# Altium footprint library 2020-11-22_15-05-33.PcbLib: 3 footprints
Each footprint in its own frame and in the unit in brackets; x right, y up, seen from the top. Pads: shape width x height; smd on the part's side, far side on the other; paste and mask are expansions set on the pad; w line width, h text height; cw(c..) or ccw(c..) is an arc to the next point about the centre after c.
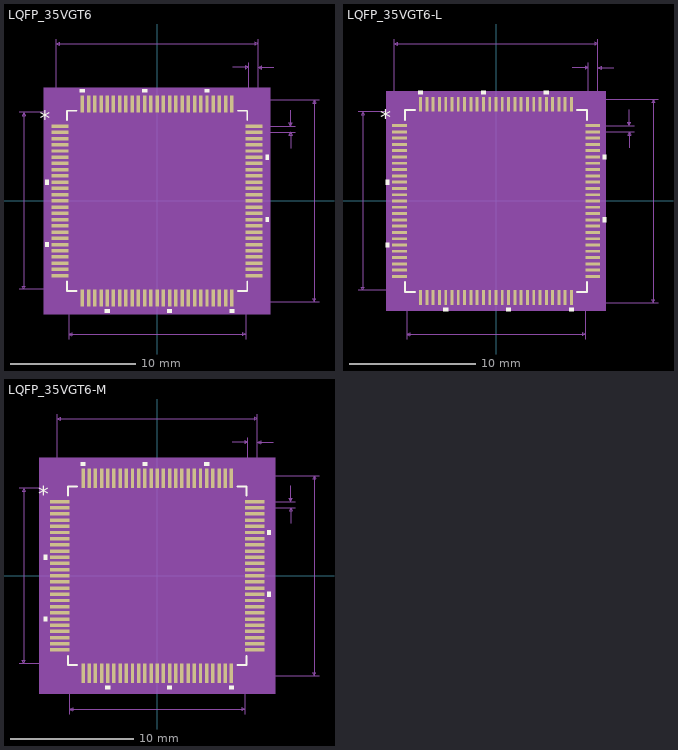
[diagram p0: the footprints below, top view; thin cyan lines are the x and y axes]

## LQFP_35VGT6 [mil]
pads (100):
  rect 53.5x11 smd paste+0 mask+0: 1(-306.25,236.28) 2(-306.25,216.59) 3(-306.25,196.9) 4(-306.25,177.21) 5(-306.25,157.52) 6(-306.25,137.83) 7(-306.25,118.14) 8(-306.25,98.45) 9(-306.25,78.76) 10(-306.25,59.07) 11(-306.25,39.38) 12(-306.25,19.69) 13(-306.25,0) 14(-306.25,-19.69) 15(-306.25,-39.38) 16(-306.25,-59.07) 17(-306.25,-78.76) 18(-306.25,-98.45) 19(-306.25,-118.14) 20(-306.25,-137.83) 21(-306.25,-157.52) 22(-306.25,-177.21) 23(-306.25,-196.9) 24(-306.25,-216.59) 25(-306.25,-236.28) 51(306.25,-236.28) 52(306.25,-216.59) 53(306.25,-196.9) 54(306.25,-177.21) 55(306.25,-157.52) 56(306.25,-137.83) 57(306.25,-118.14) 58(306.25,-98.45) 59(306.25,-78.76) 60(306.25,-59.07) 61(306.25,-39.38) 62(306.25,-19.69) 63(306.25,0) 64(306.25,19.69) 65(306.25,39.38) 66(306.25,59.07) 67(306.25,78.76) 68(306.25,98.45) 69(306.25,118.14) 70(306.25,137.83) 71(306.25,157.52) 72(306.25,177.21) 73(306.25,196.9) 74(306.25,216.59) 75(306.25,236.28)
  rect 11x53.5 smd paste+0 mask+0: 26(-236.28,-306.25) 27(-216.59,-306.25) 28(-196.9,-306.25) 29(-177.21,-306.25) 30(-157.52,-306.25) 31(-137.83,-306.25) 32(-118.14,-306.25) 33(-98.45,-306.25) 34(-78.76,-306.25) 35(-59.07,-306.25) 36(-39.38,-306.25) 37(-19.69,-306.25) 38(0,-306.25) 39(19.69,-306.25) 40(39.38,-306.25) 41(59.07,-306.25) 42(78.76,-306.25) 43(98.45,-306.25) 44(118.14,-306.25) 45(137.83,-306.25) 46(157.52,-306.25) 47(177.21,-306.25) 48(196.9,-306.25) 49(216.59,-306.25) 50(236.28,-306.25) 76(236.28,306.25) 77(216.59,306.25) 78(196.9,306.25) 79(177.21,306.25) 80(157.52,306.25) 81(137.83,306.25) 82(118.14,306.25) 83(98.45,306.25) 84(78.76,306.25) 85(59.07,306.25) 86(39.38,306.25) 87(19.69,306.25) 88(0,306.25) 89(-19.69,306.25) 90(-39.38,306.25) 91(-59.07,306.25) 92(-78.76,306.25) 93(-98.45,306.25) 94(-118.14,306.25) 95(-137.83,306.25) 96(-157.52,306.25) 97(-177.21,306.25) 98(-196.9,306.25) 99(-216.59,306.25) 100(-236.28,306.25)
Top Overlay:
  region: -343,66.57 -353,66.57 -353,51.57 -343,51.57
  region: -343,-130.33 -353,-130.33 -353,-145.33 -343,-145.33
  region: -150.02,-343 -165.02,-343 -165.02,-353 -150.02,-353
  region: 46.88,-343 31.88,-343 31.88,-353 46.88,-353
  region: 243.78,-343 228.78,-343 228.78,-353 243.78,-353
  region: 343,-51.57 353,-51.57 353,-66.57 343,-66.57
  region: 343,145.33 353,145.33 353,130.33 343,130.33
  region: 165.02,343 150.02,343 150.02,353 165.02,353
  region: -31.88,343 -46.88,343 -46.88,353 -31.88,353
  region: -228.78,343 -243.78,343 -243.78,353 -228.78,353
  lines w6: -284.5,-254.88 -284.5,-284.5 -254.88,-284.5 ; -284.5,254.88 -284.5,284.5 -254.88,284.5 ; 254.88,-284.5 284.5,-284.5 284.5,-254.88 ; 254.88,284.5 284.5,284.5 284.5,254.88
  text "*" at -370.5,236.12 h50
Mechanical 5:
  region: 358,-358 -358,-358 -358,358 358,358
Mechanical 7:
  lines w1: -436.25,-279.5 -236.28,-279.5 ; -436.25,279.5 -236.28,279.5 ; -319,236.28 -319,511.25 ; -279.5,-436.25 -279.5,-236.28 ; 236.28,-319 511.25,-319 ; 236.28,319 511.25,319 ; 239,421.25 289,421.25 ; 279.5,-436.25 279.5,-236.28 ; 289,236.28 289,436.25 ; 306.25,216.59 436.25,216.59 ; 306.25,236.28 436.25,236.28 ; 319,436.25 319,236.28 319,511.25 ; 369,421.25 319,421.25 ; 421.25,166.59 421.25,216.59 ; 421.25,286.28 421.25,236.28 ; -421.25,-279.5 -421.25,279.5 ; -421.25,-279.5 -426.25,-269.5 -416.25,-269.5 -421.25,-279.5 ; -421.25,279.5 -426.25,269.5 -416.25,269.5 -421.25,279.5 ; -319,496.25 319,496.25 ; -319,496.25 -309,501.25 -309,491.25 -319,496.25 ; -279.5,-421.25 279.5,-421.25 ; -279.5,-421.25 -269.5,-416.25 -269.5,-426.25 -279.5,-421.25 ; 279.5,-421.25 269.5,-416.25 269.5,-426.25 279.5,-421.25 ; 289,421.25 279,426.25 279,416.25 289,421.25 ; 319,421.25 329,426.25 329,416.25 319,421.25 ; 319,496.25 309,501.25 309,491.25 319,496.25 ; 421.25,216.59 416.25,206.59 426.25,206.59 421.25,216.59 ; 421.25,236.28 416.25,246.28 426.25,246.28 421.25,236.28 ; 496.25,-319 496.25,319 ; 496.25,-319 491.25,-309 501.25,-309 496.25,-319 ; 496.25,319 491.25,309 501.25,309 496.25,319
  text "Default Horiz Padstyle: RX11Y53p5D0T" at -450,-571.25 h50
  text "Default Vert Padstyle: RX11Y53p5D0T" at -437.5,-631.25 h50
  text "Alt 1 Padstyle: OX60Y90D30P" at -337.5,-811.25 h50
  text "Alt 2 Padstyle: OX90Y60D30P" at -337.5,-871.25 h50
  text "0.02in/0.5mm" at 441.25,213.94 h25
  text "0.03in/0.762mm" at 216.5,441.25 h25
  text "0.638in/16.205mm" at -100,516.25 h25
  text "0.559in/14.199mm" at -100,-466.25 h25
  text "0.559in/14.199mm" at -641.25,-12.5 h25
  text "0.638in/16.205mm" at 516.25,-12.5 h25
Mechanical 13:
  drawing of 409 lines, arcs and shapes, not listed
  text "*" at -277,221.12 h50
Mechanical 15:
  region: -251.78,-289.5 -289.5,-289.5 -289.5,-251.78 -343,-251.78 -343,251.78 -289.5,251.78 -289.5,289.5 -251.78,289.5 -251.78,343 251.78,343 251.78,289.5 289.5,289.5 289.5,251.78 343,251.78 343,-251.78 289.5,-251.78 289.5,-289.5 251.78,-289.5 251.78,-343 -251.78,-343
  lines w6: -343,-251.78 -289.5,-251.78 -289.5,-289.5 -251.78,-289.5 -251.78,-343 251.78,-343 251.78,-289.5 289.5,-289.5 289.5,-251.78 343,-251.78 343,251.78 289.5,251.78 289.5,289.5 251.78,289.5 251.78,343 -251.78,343 -251.78,289.5 -289.5,289.5 -289.5,251.78 -343,251.78 -343,-251.78
3D body: height 10, standoff 0, extent 0,0 10,10

## LQFP_35VGT6-L [mil]
pads (100):
  rect 45.5x9 smd paste+0 mask+0: 1(-302.25,236.28) 2(-302.25,216.59) 3(-302.25,196.9) 4(-302.25,177.21) 5(-302.25,157.52) 6(-302.25,137.83) 7(-302.25,118.14) 8(-302.25,98.45) 9(-302.25,78.76) 10(-302.25,59.07) 11(-302.25,39.38) 12(-302.25,19.69) 13(-302.25,0) 14(-302.25,-19.69) 15(-302.25,-39.38) 16(-302.25,-59.07) 17(-302.25,-78.76) 18(-302.25,-98.45) 19(-302.25,-118.14) 20(-302.25,-137.83) 21(-302.25,-157.52) 22(-302.25,-177.21) 23(-302.25,-196.9) 24(-302.25,-216.59) 25(-302.25,-236.28) 51(302.25,-236.28) 52(302.25,-216.59) 53(302.25,-196.9) 54(302.25,-177.21) 55(302.25,-157.52) 56(302.25,-137.83) 57(302.25,-118.14) 58(302.25,-98.45) 59(302.25,-78.76) 60(302.25,-59.07) 61(302.25,-39.38) 62(302.25,-19.69) 63(302.25,0) 64(302.25,19.69) 65(302.25,39.38) 66(302.25,59.07) 67(302.25,78.76) 68(302.25,98.45) 69(302.25,118.14) 70(302.25,137.83) 71(302.25,157.52) 72(302.25,177.21) 73(302.25,196.9) 74(302.25,216.59) 75(302.25,236.28)
  rect 9x45.5 smd paste+0 mask+0: 26(-236.28,-302.25) 27(-216.59,-302.25) 28(-196.9,-302.25) 29(-177.21,-302.25) 30(-157.52,-302.25) 31(-137.83,-302.25) 32(-118.14,-302.25) 33(-98.45,-302.25) 34(-78.76,-302.25) 35(-59.07,-302.25) 36(-39.38,-302.25) 37(-19.69,-302.25) 38(0,-302.25) 39(19.69,-302.25) 40(39.38,-302.25) 41(59.07,-302.25) 42(78.76,-302.25) 43(98.45,-302.25) 44(118.14,-302.25) 45(137.83,-302.25) 46(157.52,-302.25) 47(177.21,-302.25) 48(196.9,-302.25) 49(216.59,-302.25) 50(236.28,-302.25) 76(236.28,302.25) 77(216.59,302.25) 78(196.9,302.25) 79(177.21,302.25) 80(157.52,302.25) 81(137.83,302.25) 82(118.14,302.25) 83(98.45,302.25) 84(78.76,302.25) 85(59.07,302.25) 86(39.38,302.25) 87(19.69,302.25) 88(0,302.25) 89(-19.69,302.25) 90(-39.38,302.25) 91(-59.07,302.25) 92(-78.76,302.25) 93(-98.45,302.25) 94(-118.14,302.25) 95(-137.83,302.25) 96(-157.52,302.25) 97(-177.21,302.25) 98(-196.9,302.25) 99(-216.59,302.25) 100(-236.28,302.25)
Top Overlay:
  region: -335,66.57 -345,66.57 -345,51.57 -335,51.57
  region: -335,-130.33 -345,-130.33 -345,-145.33 -335,-145.33
  region: -150.02,-335 -165.02,-335 -165.02,-345 -150.02,-345
  region: 46.88,-335 31.88,-335 31.88,-345 46.88,-345
  region: 243.78,-335 228.78,-335 228.78,-345 243.78,-345
  region: 335,-51.57 345,-51.57 345,-66.57 335,-66.57
  region: 335,145.33 345,145.33 345,130.33 335,130.33
  region: 165.02,335 150.02,335 150.02,345 165.02,345
  region: -31.88,335 -46.88,335 -46.88,345 -31.88,345
  region: -228.78,335 -243.78,335 -243.78,345 -228.78,345
  lines w6: -284.5,-253.88 -284.5,-284.5 -253.88,-284.5 ; -284.5,253.88 -284.5,284.5 -253.88,284.5 ; 253.88,-284.5 284.5,-284.5 284.5,-253.88 ; 253.88,284.5 284.5,284.5 284.5,253.88
  text "*" at -362.5,236.12 h50
Mechanical 5:
  region: 344,-344 -344,-344 -344,344 344,344
Mechanical 7:
  lines w1: -432.25,-279.5 -236.28,-279.5 ; -432.25,279.5 -236.28,279.5 ; -319,236.28 -319,507.25 ; -279.5,-432.25 -279.5,-236.28 ; 236.28,-319 507.25,-319 ; 236.28,319 507.25,319 ; 239,417.25 289,417.25 ; 279.5,-432.25 279.5,-236.28 ; 289,236.28 289,432.25 ; 302.25,216.59 432.25,216.59 ; 302.25,236.28 432.25,236.28 ; 319,432.25 319,236.28 319,507.25 ; 369,417.25 319,417.25 ; 417.25,166.59 417.25,216.59 ; 417.25,286.28 417.25,236.28 ; -417.25,-279.5 -417.25,279.5 ; -417.25,-279.5 -422.25,-269.5 -412.25,-269.5 -417.25,-279.5 ; -417.25,279.5 -422.25,269.5 -412.25,269.5 -417.25,279.5 ; -319,492.25 319,492.25 ; -319,492.25 -309,497.25 -309,487.25 -319,492.25 ; -279.5,-417.25 279.5,-417.25 ; -279.5,-417.25 -269.5,-412.25 -269.5,-422.25 -279.5,-417.25 ; 279.5,-417.25 269.5,-412.25 269.5,-422.25 279.5,-417.25 ; 289,417.25 279,422.25 279,412.25 289,417.25 ; 319,417.25 329,422.25 329,412.25 319,417.25 ; 319,492.25 309,497.25 309,487.25 319,492.25 ; 417.25,216.59 412.25,206.59 422.25,206.59 417.25,216.59 ; 417.25,236.28 412.25,246.28 422.25,246.28 417.25,236.28 ; 492.25,-319 492.25,319 ; 492.25,-319 487.25,-309 497.25,-309 492.25,-319 ; 492.25,319 487.25,309 497.25,309 492.25,319
  text "Default Horiz Padstyle: RX9Y45p5D0T" at -437.5,-567.25 h50
  text "Default Vert Padstyle: RX9Y45p5D0T" at -425,-627.25 h50
  text "Alt 1 Padstyle: OX60Y90D30P" at -337.5,-807.25 h50
  text "Alt 2 Padstyle: OX90Y60D30P" at -337.5,-867.25 h50
  text "0.02in/0.5mm" at 437.25,213.94 h25
  text "0.03in/0.762mm" at 216.5,437.25 h25
  text "0.638in/16.205mm" at -100,512.25 h25
  text "0.559in/14.199mm" at -100,-462.25 h25
  text "0.559in/14.199mm" at -637.25,-12.5 h25
  text "0.638in/16.205mm" at 512.25,-12.5 h25
Mechanical 13:
  drawing of 409 lines, arcs and shapes, not listed
  text "*" at -277,221.12 h50
Mechanical 15:
  region: -244.78,-283.5 -283.5,-283.5 -283.5,-244.78 -329,-244.78 -329,244.78 -283.5,244.78 -283.5,283.5 -244.78,283.5 -244.78,329 244.78,329 244.78,283.5 283.5,283.5 283.5,244.78 329,244.78 329,-244.78 283.5,-244.78 283.5,-283.5 244.78,-283.5 244.78,-329 -244.78,-329
  lines w6: -329,-244.78 -283.5,-244.78 -283.5,-283.5 -244.78,-283.5 -244.78,-329 244.78,-329 244.78,-283.5 283.5,-283.5 283.5,-244.78 329,-244.78 329,244.78 283.5,244.78 283.5,283.5 244.78,283.5 244.78,329 -244.78,329 -244.78,283.5 -283.5,283.5 -283.5,244.78 -329,244.78 -329,-244.78
3D body: height 10, standoff 0, extent 0,0 10,10

## LQFP_35VGT6-M [mil]
pads (100):
  rect 61.5x11 smd paste+0 mask+0: 1(-310.25,236.28) 2(-310.25,216.59) 3(-310.25,196.9) 4(-310.25,177.21) 5(-310.25,157.52) 6(-310.25,137.83) 7(-310.25,118.14) 8(-310.25,98.45) 9(-310.25,78.76) 10(-310.25,59.07) 11(-310.25,39.38) 12(-310.25,19.69) 13(-310.25,0) 14(-310.25,-19.69) 15(-310.25,-39.38) 16(-310.25,-59.07) 17(-310.25,-78.76) 18(-310.25,-98.45) 19(-310.25,-118.14) 20(-310.25,-137.83) 21(-310.25,-157.52) 22(-310.25,-177.21) 23(-310.25,-196.9) 24(-310.25,-216.59) 25(-310.25,-236.28) 51(310.25,-236.28) 52(310.25,-216.59) 53(310.25,-196.9) 54(310.25,-177.21) 55(310.25,-157.52) 56(310.25,-137.83) 57(310.25,-118.14) 58(310.25,-98.45) 59(310.25,-78.76) 60(310.25,-59.07) 61(310.25,-39.38) 62(310.25,-19.69) 63(310.25,0) 64(310.25,19.69) 65(310.25,39.38) 66(310.25,59.07) 67(310.25,78.76) 68(310.25,98.45) 69(310.25,118.14) 70(310.25,137.83) 71(310.25,157.52) 72(310.25,177.21) 73(310.25,196.9) 74(310.25,216.59) 75(310.25,236.28)
  rect 11x61.5 smd paste+0 mask+0: 26(-236.28,-310.25) 27(-216.59,-310.25) 28(-196.9,-310.25) 29(-177.21,-310.25) 30(-157.52,-310.25) 31(-137.83,-310.25) 32(-118.14,-310.25) 33(-98.45,-310.25) 34(-78.76,-310.25) 35(-59.07,-310.25) 36(-39.38,-310.25) 37(-19.69,-310.25) 38(0,-310.25) 39(19.69,-310.25) 40(39.38,-310.25) 41(59.07,-310.25) 42(78.76,-310.25) 43(98.45,-310.25) 44(118.14,-310.25) 45(137.83,-310.25) 46(157.52,-310.25) 47(177.21,-310.25) 48(196.9,-310.25) 49(216.59,-310.25) 50(236.28,-310.25) 76(236.28,310.25) 77(216.59,310.25) 78(196.9,310.25) 79(177.21,310.25) 80(157.52,310.25) 81(137.83,310.25) 82(118.14,310.25) 83(98.45,310.25) 84(78.76,310.25) 85(59.07,310.25) 86(39.38,310.25) 87(19.69,310.25) 88(0,310.25) 89(-19.69,310.25) 90(-39.38,310.25) 91(-59.07,310.25) 92(-78.76,310.25) 93(-98.45,310.25) 94(-118.14,310.25) 95(-137.83,310.25) 96(-157.52,310.25) 97(-177.21,310.25) 98(-196.9,310.25) 99(-216.59,310.25) 100(-236.28,310.25)
Top Overlay:
  region: -351,66.57 -361,66.57 -361,51.57 -351,51.57
  region: -351,-130.33 -361,-130.33 -361,-145.33 -351,-145.33
  region: -150.02,-351 -165.02,-351 -165.02,-361 -150.02,-361
  region: 46.88,-351 31.88,-351 31.88,-361 46.88,-361
  region: 243.78,-351 228.78,-351 228.78,-361 243.78,-361
  region: 351,-51.57 361,-51.57 361,-66.57 351,-66.57
  region: 351,145.33 361,145.33 361,130.33 351,130.33
  region: 165.02,351 150.02,351 150.02,361 165.02,361
  region: -31.88,351 -46.88,351 -46.88,361 -31.88,361
  region: -228.78,351 -243.78,351 -243.78,361 -228.78,361
  lines w6: -284.5,-254.88 -284.5,-284.5 -254.88,-284.5 ; -284.5,254.88 -284.5,284.5 -254.88,284.5 ; 254.88,-284.5 284.5,-284.5 284.5,-254.88 ; 254.88,284.5 284.5,284.5 284.5,254.88
  text "*" at -378.5,236.12 h50
Mechanical 5:
  region: 376,-376 -376,-376 -376,376 376,376
Mechanical 7:
  lines w1: -440.25,-279.5 -236.28,-279.5 ; -440.25,279.5 -236.28,279.5 ; -319,236.28 -319,515.25 ; -279.5,-440.25 -279.5,-236.28 ; 236.28,-319 515.25,-319 ; 236.28,319 515.25,319 ; 239,425.25 289,425.25 ; 279.5,-440.25 279.5,-236.28 ; 289,236.28 289,440.25 ; 310.25,216.59 440.25,216.59 ; 310.25,236.28 440.25,236.28 ; 319,440.25 319,236.28 319,515.25 ; 369,425.25 319,425.25 ; 425.25,166.59 425.25,216.59 ; 425.25,286.28 425.25,236.28 ; -425.25,-279.5 -425.25,279.5 ; -425.25,-279.5 -430.25,-269.5 -420.25,-269.5 -425.25,-279.5 ; -425.25,279.5 -430.25,269.5 -420.25,269.5 -425.25,279.5 ; -319,500.25 319,500.25 ; -319,500.25 -309,505.25 -309,495.25 -319,500.25 ; -279.5,-425.25 279.5,-425.25 ; -279.5,-425.25 -269.5,-420.25 -269.5,-430.25 -279.5,-425.25 ; 279.5,-425.25 269.5,-420.25 269.5,-430.25 279.5,-425.25 ; 289,425.25 279,430.25 279,420.25 289,425.25 ; 319,425.25 329,430.25 329,420.25 319,425.25 ; 319,500.25 309,505.25 309,495.25 319,500.25 ; 425.25,216.59 420.25,206.59 430.25,206.59 425.25,216.59 ; 425.25,236.28 420.25,246.28 430.25,246.28 425.25,236.28 ; 500.25,-319 500.25,319 ; 500.25,-319 495.25,-309 505.25,-309 500.25,-319 ; 500.25,319 495.25,309 505.25,309 500.25,319
  text "Default Horiz Padstyle: RX11Y61p5D0T" at -450,-575.25 h50
  text "Default Vert Padstyle: RX11Y61p5D0T" at -437.5,-635.25 h50
  text "Alt 1 Padstyle: OX60Y90D30P" at -337.5,-815.25 h50
  text "Alt 2 Padstyle: OX90Y60D30P" at -337.5,-875.25 h50
  text "0.02in/0.5mm" at 445.25,213.94 h25
  text "0.03in/0.762mm" at 216.5,445.25 h25
  text "0.638in/16.205mm" at -100,520.25 h25
  text "0.559in/14.199mm" at -100,-470.25 h25
  text "0.559in/14.199mm" at -645.25,-12.5 h25
  text "0.638in/16.205mm" at 520.25,-12.5 h25
Mechanical 13:
  drawing of 409 lines, arcs and shapes, not listed
  text "*" at -277,221.12 h50
Mechanical 15:
  region: -261.78,-299.5 -299.5,-299.5 -299.5,-261.78 -361,-261.78 -361,261.78 -299.5,261.78 -299.5,299.5 -261.78,299.5 -261.78,361 261.78,361 261.78,299.5 299.5,299.5 299.5,261.78 361,261.78 361,-261.78 299.5,-261.78 299.5,-299.5 261.78,-299.5 261.78,-361 -261.78,-361
  lines w6: -361,-261.78 -299.5,-261.78 -299.5,-299.5 -261.78,-299.5 -261.78,-361 261.78,-361 261.78,-299.5 299.5,-299.5 299.5,-261.78 361,-261.78 361,261.78 299.5,261.78 299.5,299.5 261.78,299.5 261.78,361 -261.78,361 -261.78,299.5 -299.5,299.5 -299.5,261.78 -361,261.78 -361,-261.78
3D body: height 10, standoff 0, extent 0,0 10,10